# EAGLE library part DB-CONNECTOR-9 (library OPL)
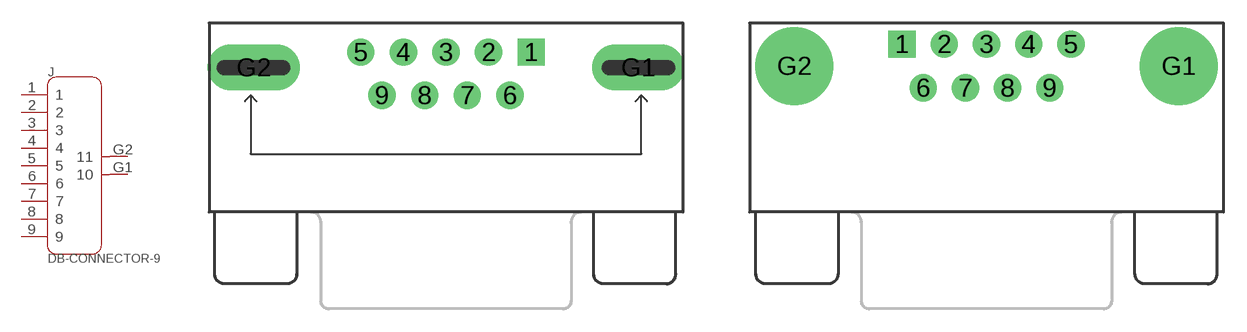
[diagram p37: symbol with the pads of 9+2P-2.77-FEMALE; footprints 9+2P-2.77-FEMALE, 9+2P-2.77-MALE]

Designator prefix J

## DB-CONNECTOR-9-320110019  [9+2P-2.77-FEMALE]
1  1
2  2
3  3
4  4
5  5
6  6
7  7
8  8
9  9
G1  10
G2  11

## DB-CONNECTOR-9-320110017  [9+2P-2.77-MALE]
Pads as for 9+2P-2.77-FEMALE

## Footprint 9+2P-2.77-FEMALE (pad centres in mm)
SUB-D
drill 1.143 pad 1.778 square: 1 5.54,0.9
drill 1.143 pad 1.778: 2 2.77,0.9; 3 0,0.9; 4 -2.77,0.9; 5 -5.54,0.9; 6 4.155,-1.91; 7 1.385,-1.91; 8 -1.385,-1.91; 9 -4.155,-1.91
drill 1 pad 3 long: G1 12.5,-0.1; G2 -12.5,-0.1

## Footprint 9+2P-2.77-MALE (pad centres in mm)
drill 1.143 pad 1.778 square: 1 -5.486,1.422
drill 1.143 pad 1.778: 2 -2.743,1.422; 3 0,1.422; 4 2.743,1.422; 5 5.486,1.422; 6 -4.115,-1.422; 7 -1.372,-1.422; 8 1.372,-1.422; 9 4.115,-1.422
drill 3.302 pad 5.08: G1 12.497,0; G2 -12.497,0